# EAGLE library part 61205021721 (library Wurth_Elektronik_Electromechanic_Wire_to_Board_Connectors_rev16a)
WR-BHD 2.54mm Male Angled Box Header, 50 Pins=>Code : Con_WTB_BHD_2.54_Male_THT_WS_61205021721 <http://katalog.we-online.de/media/thumbs2/eican/thb_Con_WTB_BHD_2.54_Male_THT_WS_6120xx21721_pf2.jpg> Details see: http://katalog.we-online.de/en/em/612_0xx_217_21 Created 2014-06-05, Karrer Zheng 2014 (C) Würth Elektronik
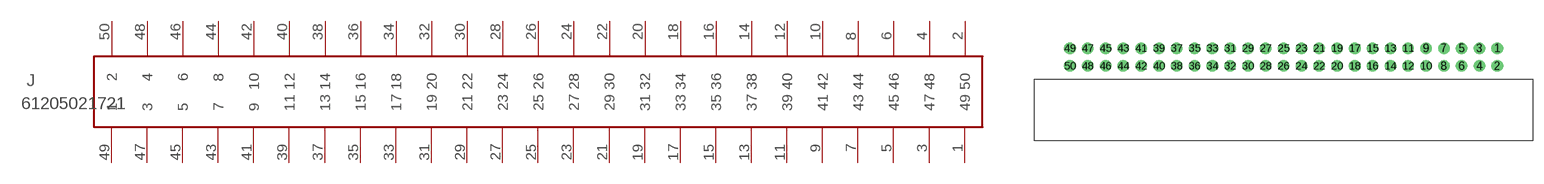
[diagram p194: symbol with the pads of 61205021721; footprint 61205021721]

Designator prefix J

## 61205021721  [61205021721]
1  49  pas
2  50  pas
3  47  pas
4  48  pas
5  45  pas
6  46  pas
7  43  pas
8  44  pas
9  41  pas
10  42  pas
11  39  pas
12  40  pas
13  37  pas
14  38  pas
15  35  pas
16  36  pas
17  33  pas
18  34  pas
19  31  pas
20  32  pas
21  29  pas
22  30  pas
23  27  pas
24  28  pas
25  25  pas
26  26  pas
27  23  pas
28  24  pas
29  21  pas
30  22  pas
31  19  pas
32  20  pas
33  17  pas
34  18  pas
35  15  pas
36  16  pas
37  13  pas
38  14  pas
39  11  pas
40  12  pas
41  9  pas
42  10  pas
43  7  pas
44  8  pas
45  5  pas
46  6  pas
47  3  pas
48  4  pas
49  1  pas
50  2  pas

## Footprint 61205021721 (pad centres in mm)
WR-BHD 2.54mm Male Angled Box Header, 50 Pins
drill 1.1: 1 2.54,1.27; 2 2.54,-1.27; 3 0,1.27; 4 0,-1.27; 5 -2.54,1.27; 6 -2.54,-1.27; 7 -5.08,1.27; 8 -5.08,-1.27; 9 -7.62,1.27; 10 -7.62,-1.27; 11 -10.16,1.27; 12 -10.16,-1.27; 13 -12.7,1.27; 14 -12.7,-1.27; 15 -15.24,1.27; 16 -15.24,-1.27; 17 -17.78,1.27; 18 -17.78,-1.27; 19 -20.32,1.27; 20 -20.32,-1.27; 21 -22.86,1.27; 22 -22.86,-1.27; 23 -25.4,1.27; 24 -25.4,-1.27; 25 -27.94,1.27; 26 -27.94,-1.27; 27 -30.48,1.27; 28 -30.48,-1.27; 29 -33.02,1.27; 30 -33.02,-1.27; 31 -35.56,1.27; 32 -35.56,-1.27; 33 -38.1,1.27; 34 -38.1,-1.27; 35 -40.64,1.27; 36 -40.64,-1.27; 37 -43.18,1.27; 38 -43.18,-1.27; 39 -45.72,1.27; 40 -45.72,-1.27; 41 -48.26,1.27; 42 -48.26,-1.27; 43 -50.8,1.27; 44 -50.8,-1.27; 45 -53.34,1.27; 46 -53.34,-1.27; 47 -55.88,1.27; 48 -55.88,-1.27; 49 -58.42,1.27; 50 -58.42,-1.27